# Altium footprint library PLS-4.PcbLib: 1 footprints
Each footprint in its own frame and in the unit in brackets; x right, y up, seen from the top. Pads: shape width x height; smd on the part's side, far side on the other; paste and mask are expansions set on the pad; w line width, h text height; cw(c..) or ccw(c..) is an arc to the next point about the centre after c.
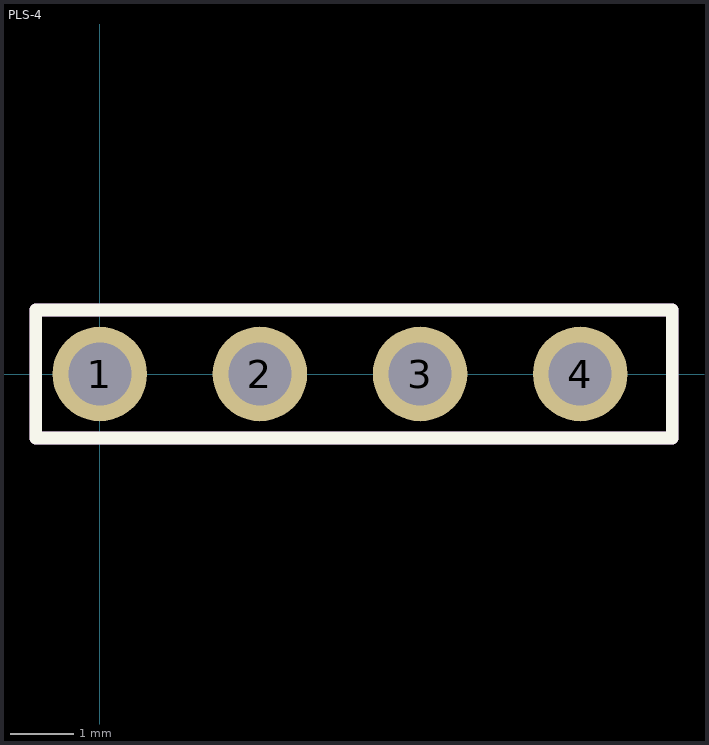
[diagram p0: the footprint, top view; thin cyan lines are the x and y axes]

## PLS-4 [mm]
pads (4):
  round 1.5 hole 1: 1(0,0) 2(2.54,0) 3(5.08,0) 4(7.62,0)
Top Overlay:
  lines w0.2: -1.016,-1.016 -1.016,1.016 9.08,1.016 9.08,-1.016 -1.016,-1.016
TopAssy:
  lines w0.2: -1.016,-1.016 9.08,-1.016 9.08,1.016 -1.016,1.016 -1.016,-1.016
3D body "User Library-PLD-4-1.step": height 8.7, standoff -2.94, extent -1.33,-1.27 8.83,1.27